# EAGLE library part MICROSD (library sj_arduino)
MicroSD Card Module
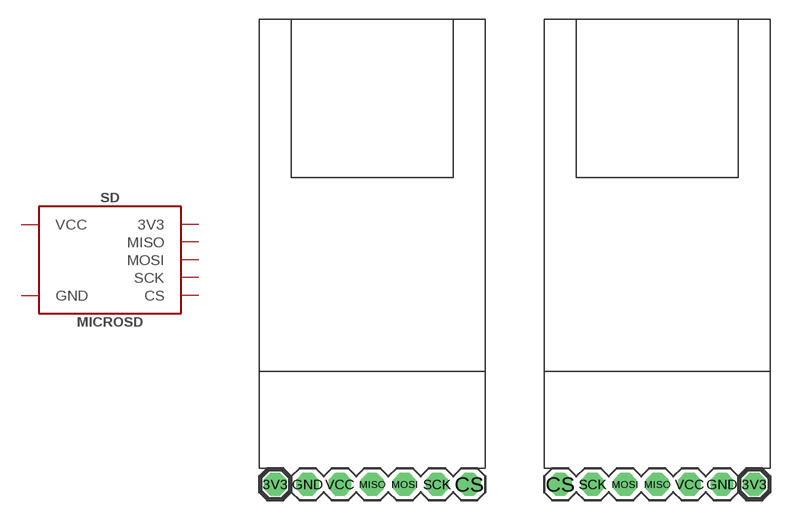
[diagram p2: symbol with the pads of MICROSD_LTR; footprints MICROSD_LTR, MICROSD_RTL]

Designator prefix SD

## MICROSD_LTR  [MICROSD_LTR]
3V3  3V3  pas
CS  CS  pas
GND  GND  pas
MISO  MISO  pas
MOSI  MOSI  pas
SCK  SCK  pas
VCC  VCC  pas

## MICROSD_RTL  [MICROSD_RTL]
Pads as for MICROSD_LTR

## Footprint MICROSD_LTR (pad centres in mm)
MicroSD Card Module Package (All Pins Octagon, Left To Right)
drill 0.838 pad 1.778 octagon: 3V3 -7.62,1.27; CS 7.62,1.27; GND -5.08,1.27; MISO 0,1.27; MOSI 2.54,1.27; SCK 5.08,1.27; VCC -2.54,1.27

## Footprint MICROSD_RTL (pad centres in mm)
MicroSD Card Module Package (All Pins Octagon, Right To Left)
drill 0.838 pad 1.778 octagon: 3V3 7.62,1.27; CS -7.62,1.27; GND 5.08,1.27; MISO 0,1.27; MOSI -2.54,1.27; SCK -5.08,1.27; VCC 2.54,1.27